# Altium footprint library Reader32chv2.PcbLib: 12 footprints
Each footprint in its own frame and in the unit in brackets; x right, y up, seen from the top. Pads: shape width x height; smd on the part's side, far side on the other; paste and mask are expansions set on the pad; w line width, h text height; cw(c..) or ccw(c..) is an arc to the next point about the centre after c.
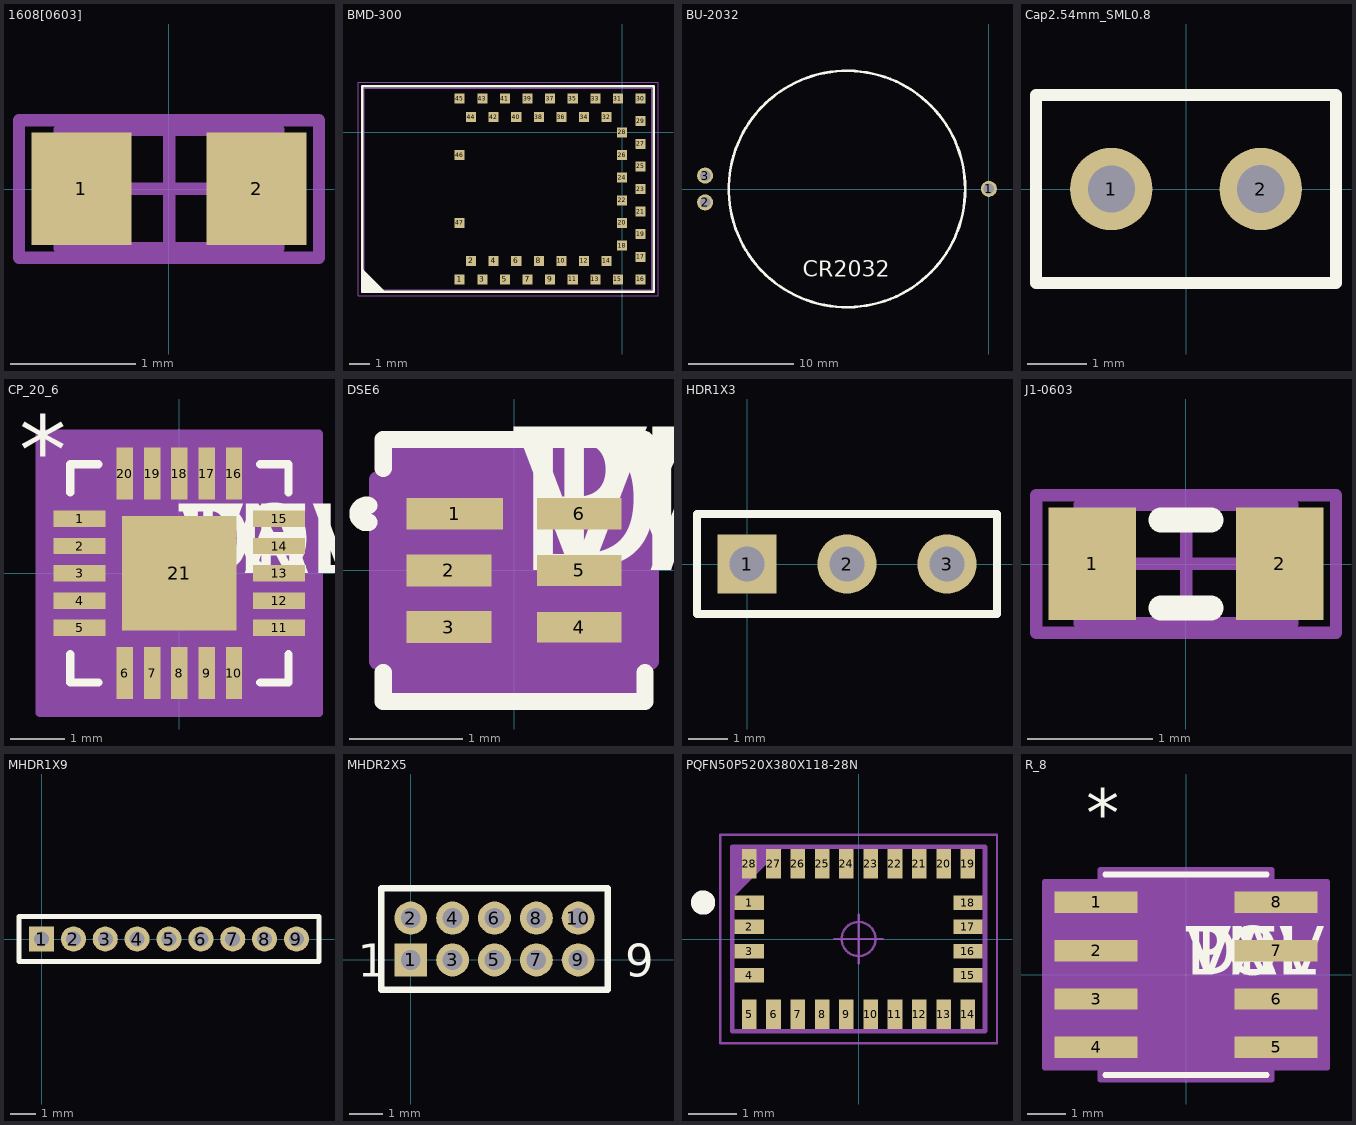
[diagram p0: the footprints below, top view; thin cyan lines are the x and y axes]

## 1608[0603] [mm] "Chip Capacitor, Body 1.6x0.8mm, IPC High Density"
height 1.3
pads (2):
  rect 0.8x0.9 smd: 1(-0.7,0) 2(0.7,0)
Mechanical 13:
  lines w0.1: -0.875,-0.475 -0.875,0.475 0.875,0.475 0.875,-0.475 -0.875,-0.475
Mechanical 15:
  lines w0.1: -0.475,0 0.475,0 ; 0,-0.475 0,0.475 ; -1.2,-0.55 -1.2,0.55 1.2,0.55 1.2,-0.55 -1.2,-0.55
3D body: height 1.3, standoff 0, extent -0.875,-0.475 0.875,0.475

## BMD-300 [mm] "BMD-300, LGA, 47pin ,1.1mm Pitch, 14mm x 9.8mm"
height 1.9
pads (47):
  rect 0.49x0.49 smd: 1(-7.9,-7.15) 2(-7.35,-6.25) 3(-6.8,-7.15) 4(-6.25,-6.25) 5(-5.7,-7.15) 6(-5.15,-6.25) 7(-4.6,-7.15) 8(-4.05,-6.25) 9(-3.5,-7.15) 10(-2.95,-6.25) 11(-2.4,-7.15) 12(-1.85,-6.25) 13(-1.3,-7.15) 14(-0.75,-6.25) 15(-0.2,-7.15) 16(0.9,-7.15) 17(0.9,-6.05) 18(0,-5.5) 19(0.9,-4.95) 20(0,-4.4) 21(0.9,-3.85) 22(0,-3.3) 23(0.9,-2.75) 24(0,-2.2) 25(0.9,-1.65) 26(0,-1.1) 27(0.9,-0.55) 28(0,0) 29(0.9,0.55) 30(0.9,1.65) 31(-0.2,1.65) 32(-0.75,0.75) 33(-1.3,1.65) 34(-1.85,0.75) 35(-2.4,1.65) 36(-2.95,0.75) 37(-3.5,1.65) 38(-4.05,0.75) 39(-4.6,1.65) 40(-5.15,0.75) 41(-5.7,1.65) 42(-6.25,0.75) 43(-6.8,1.65) 44(-7.35,0.75) 45(-7.9,1.65) 46(-7.9,-1.1) 47(-7.9,-4.4)
Top Overlay:
  region: -11.625,-7.725 -12.625,-6.725 -12.625,-7.725
  lines w0.127: -12.623,-6.717 -11.623,-7.717 ; -12.65,-7.75 1.55,-7.75 1.55,2.25 -12.65,2.25 -12.65,-7.75
Mechanical 11:
  text ".Designator" at -7.8,-2.75 h1.5
Mechanical 13:
  lines w0.05: -12.55,-7.65 1.45,-7.65 1.45,2.15 -12.55,2.15 -12.55,-7.65
Mechanical 15:
  lines w0.05: -12.85,-7.95 1.75,-7.95 1.75,2.45 -12.85,2.45 -12.85,-7.95
Multi-Layer:
  pour cut-out: -8.15,-7.65 -8.15,2.15 -12.55,2.15 -12.55,-7.65
3D body "BMD-300_assembly.STEP": height 1.89, standoff 0.05, extent -12.55,-7.65 1.45,2.15

## BU-2032 [mm]
pads (3):
  round 1.524 hole 1: 1(0,0.02) 2(-26.9,-1.27) 3(-26.9,1.27)
Top Overlay:
  circle w0.254: c-13.45,0 r11.2
  text "CR2032" at -17.64,-8.32 h1.52

## Cap2.54mm_SML0.8 [mm] "Capacitor, Ceramic, Thru-Hole, Dipped Radial; Body 5.1 x 3.2 mm (WxT) Pin Spacing 2.54 mm (typ)"
height 6
pads (2):
  round 1.4 hole 0.8: 1(-1.27,0)
  round 1.4 hole 0.813: 2(1.27,0)
Top Overlay:
  lines w0.2: -2.55,-1.6 2.55,-1.6 2.55,1.6 -2.55,1.6 -2.55,-1.6

## CP_20_6 [mm]
pads (21):
  rect 0.955x0.3 smd: 1(-1.827,1) 2(-1.827,0.5) 3(-1.827,0) 4(-1.827,-0.5) 5(-1.827,-1) 11(1.827,-1) 12(1.827,-0.5) 13(1.827,0) 14(1.827,0.5) 15(1.827,1)
  rect 0.3x0.955 smd: 6(-1,-1.827) 7(-0.5,-1.827) 8(0,-1.827) 9(0.5,-1.827) 10(1,-1.827) 16(1,1.827) 17(0.5,1.827) 18(0,1.827) 19(-0.5,1.827) 20(-1,1.827)
  rect 2.1x2.1 smd paste-1.037: 21(0,0)
Top Overlay:
  lines w0.152: -2,-1.483 -2,-2 -1.483,-2 ; -2,1.483 -2,2 -1.483,2 ; 1.483,-2 2,-2 2,-1.483 ; 1.483,2 2,2 2,1.483
  text "*" at -2.94,1.631 h1.27
  text "PN" at 0,0 h1.27
  text "DEV" at 0,0 h1.27
  text "VAL" at 0,0 h1.27
  text "TOL" at 0,0 h1.27
Top Paste:
  region: 1.05,1.05 -1.05,1.05 -1.05,-1.05 1.05,-1.05
Mechanical 13:
  lines w0.025: -2,0.73 -0.73,2 ; -2,-2 2,-2 2,2 -2,2 -2,-2 ; -2,-1.15 -2,-0.85 -2,-1.15 ; -2,-0.65 -2,-0.35 -2,-0.65 ; -2,-0.15 -2,0.15 -2,-0.15 ; -2,0.35 -2,0.65 -2,0.35 ; -2,0.85 -2,1.15 -2,0.85 ; -1.15,-2 -0.85,-2 -1.15,-2 ; -1.15,2 -0.85,2 -1.15,2 ; -0.65,-2 -0.35,-2 -0.65,-2 ; -0.65,2 -0.35,2 -0.65,2 ; -0.15,-2 0.15,-2 -0.15,-2 ; -0.15,2 0.15,2 -0.15,2 ; 0.35,-2 0.65,-2 0.35,-2 ; 0.35,2 0.65,2 0.35,2 ; 0.85,-2 1.15,-2 0.85,-2 ; 0.85,2 1.15,2 0.85,2 ; 2,-1.15 2,-0.85 2,-1.15 ; 2,-0.65 2,-0.35 2,-0.65 ; 2,-0.15 2,0.15 2,-0.15 ; 2,0.35 2,0.65 2,0.35 ; 2,0.85 2,1.15 2,0.85
  text "*" at -2.94,1.631 h1.27
  text "RefDes2" at 0,0 h1.27
Mechanical 15:
  region: 2.559,-2.559 -2.559,-2.559 -2.559,2.559 2.559,2.559
  lines w0.152: -2.559,-2.559 -2.559,2.559 2.559,2.559 2.559,-2.559 -2.559,-2.559
3D body "User Library-QFN20_4x4x0_8.STEP": height 0.78, standoff -0.02, extent -2.01,-2.01 2.01,2.01

## DSE6 [mm]
pads (6):
  rect 0.85x0.28 smd paste-0.05 mask+0.05: 1(-0.525,0.5)
  rect 0.75x0.28 smd paste-0.05 mask+0.05: 2(-0.575,0) 3(-0.575,-0.5) 6(0.575,0.5)
  rect 0.75x0.27 smd paste-0.1 mask+0.05: 4(0.575,-0.5)
  rect 0.75x0.27 smd paste-0.05 mask+0.05: 5(0.575,0)
Top Overlay:
  lines w0.152: -1.283,0.426 cw(c-1.302,0.5) -1.283,0.574 ; -1.156,-0.901 -1.156,-1.156 1.156,-1.156 1.156,-0.901 ; -1.156,0.901 -1.156,1.156 1.156,1.156 1.156,0.901
  text "PN" at 0,0 h1.27
  text "DEV" at 0,0 h1.27
  text "VAL" at 0,0 h1.27
  text "TOL" at 0,0 h1.27
Top Paste:
  region: -0.225,0.615 -0.925,0.615 -0.925,0.385 -0.225,0.385
  region: -0.225,0.115 -0.925,0.115 -0.925,-0.115 -0.225,-0.115
  region: -0.225,-0.385 -0.925,-0.385 -0.925,-0.615 -0.225,-0.615
  region: 0.925,-0.385 0.225,-0.385 0.225,-0.615 0.925,-0.615
  region: 0.925,0.115 0.225,0.115 0.225,-0.115 0.925,-0.115
  region: 0.925,0.615 0.225,0.615 0.225,0.385 0.925,0.385
Mechanical 13:
  circle w0: c-0.2,0.5 r0.076
  lines w0: -0.305,0.775 ccw(c0,0.775) 0.305,0.775
  lines w0.025: -0.775,-0.775 0.775,-0.775 0.775,0.775 -0.775,0.775 -0.775,-0.775
  text "RefDes2" at 0,0 h1.27
Mechanical 15:
  region: -1.029,-0.801 -1.204,-0.801 -1.204,0.801 -1.029,0.801 -1.029,1.029 1.029,1.029 1.029,0.801 1.204,0.801 1.204,-0.801 1.029,-0.801 1.029,-1.029 -1.029,-1.029
  lines w0.152: -1.204,-0.801 -1.204,0.801 -1.029,0.801 -1.029,1.029 1.029,1.029 1.029,0.801 1.204,0.801 1.204,-0.801 1.029,-0.801 1.029,-1.029 -1.029,-1.029 -1.029,-0.801 -1.204,-0.801
3D body "User Library-DSE(S-PDSO-N6).step": height 0.75, standoff 0, extent -0.77,-0.75 0.77,0.75

## HDR1X3 [mm] "Connector; Header; 3 Position"
pads (3):
  rect 1.5x1.5 hole 0.9: 1(0,0)
  round 1.5 hole 0.9: 2(2.54,0) 3(5.08,0)
Top Overlay:
  lines w0.2: -1.27,-1.27 -1.27,1.27 6.35,1.27 6.35,-1.27 -1.27,-1.27

## J1-0603 [mm] "Chip Resistor, Body 1.6x0.8mm, IPC High Density"
height 0.9
pads (2):
  rect 0.7x0.9 smd: 1(-0.75,0) 2(0.75,0)
Top Overlay:
  lines w0.2: -0.2,-0.35 0.2,-0.35 ; -0.2,0.35 0.2,0.35
Mechanical 13:
  lines w0.1: -0.85,-0.475 0.85,-0.475 0.85,0.475 -0.85,0.475 -0.85,-0.475
Mechanical 15:
  lines w0.1: -0.475,0 0.475,0 ; 0,-0.475 0,0.475 ; -1.2,-0.55 1.2,-0.55 1.2,0.55 -1.2,0.55 -1.2,-0.55
3D body: height 0.9, standoff 0, extent -0.85,-0.475 0.85,0.475

## MHDR1X9 [mm] "Connector; Header; 9 Position"
pads (9):
  rect 1x1 hole 0.6: 1(0,0)
  round 1 hole 0.6: 2(1.27,0) 3(2.54,0) 4(3.81,0) 5(5.08,0) 6(6.35,0) 7(7.62,0) 8(8.89,0) 9(10.16,0)
Top Overlay:
  lines w0.2: -0.9,-0.9 11.06,-0.9 11.06,0.9 -0.9,0.9 -0.9,-0.9

## MHDR2X5 [mm] "Connector; Header; 5x2 Position"
pads (10):
  rect 1x1 hole 0.6: 1(0,0)
  round 1 hole 0.6: 2(0,1.27) 3(1.27,0) 4(1.27,1.27) 5(2.54,0) 6(2.54,1.27) 7(3.81,0) 8(3.81,1.27) 9(5.08,0) 10(5.08,1.27)
Top Overlay:
  lines w0.2: -0.9,-0.9 5.98,-0.9 5.98,2.17 -0.9,2.17 -0.9,-0.9
  text "1" at -1.6,-0.508 h1
  text "9" at 6.5,-0.508 h1

## PQFN50P520X380X118-28N [mm]
height 1.18
pads (28):
  rect 0.6x0.3 smd: 1(-2.25,0.75) 2(-2.25,0.25) 3(-2.25,-0.25) 4(-2.25,-0.75) 15(2.25,-0.75) 16(2.25,-0.25) 17(2.25,0.25) 18(2.25,0.75)
  rect 0.3x0.6 smd: 5(-2.25,-1.55) 6(-1.75,-1.55) 7(-1.25,-1.55) 8(-0.75,-1.55) 9(-0.25,-1.55) 10(0.25,-1.55) 11(0.75,-1.55) 12(1.25,-1.55) 13(1.75,-1.55) 14(2.25,-1.55) 19(2.25,1.55) 20(1.75,1.55) 21(1.25,1.55) 22(0.75,1.55) 23(0.25,1.55) 24(-0.25,1.55) 25(-0.75,1.55) 26(-1.25,1.55) 27(-1.75,1.55) 28(-2.25,1.55)
Top Overlay:
  circle w0.25: c-3.2,0.75 r0.125
Mechanical 15:
  lines w0.1: -2.6,0.9 -1.6,1.9 ; -2.6,1 -1.7,1.9 ; -2.6,1.1 -1.8,1.9 ; -2.6,1.2 -1.9,1.9 ; -2.6,1.3 -2,1.9 ; -2.6,1.4 -2.1,1.9 ; -2.6,1.5 -2.2,1.9 ; -2.6,1.6 -2.3,1.9 ; -2.6,1.7 -2.4,1.9 ; -2.6,1.8 -2.5,1.9 ; -2.6,-1.9 -2.6,1.9 2.6,1.9 2.6,-1.9 -2.6,-1.9
Mechanical 16:
  circle w0.05: c0,0 r0.35
  lines w0.001: -2.6,-1.9 -2.6,1.9 2.6,1.9 2.6,-1.9 -2.6,-1.9
  lines w0.05: -0.5,0 0.5,0 ; 0,-0.5 0,0.5 ; -2.85,-2.15 -2.85,2.15 2.85,2.15 2.85,-2.15 -2.85,-2.15

## R_8 [mil]
pads (8):
  rect 86x22 smd paste+0 mask+0: 1(-93,75) 2(-93,25) 3(-93,-25) 4(-93,-75) 5(93,-75) 6(93,-25) 7(93,25) 8(93,75)
Top Overlay:
  lines w6: -83.5,-103.5 83.5,-103.5 ; -83.5,103.5 83.5,103.5
  text "TOL" at 0,0 h50
  text "VAL" at 0,0 h50
  text "DEV" at 0,0 h50
  text "PN" at 0,0 h50
  text "*" at -103,142 h50
Mechanical 13:
  lines w0: -12,98.5 ccw(c0,98.5) 12,98.5
  lines w1: -122,-85 -78.5,-85 -78.5,-65 -122,-65 -122,-85 ; -122,-35 -78.5,-35 -78.5,-15 -122,-15 -122,-35 ; -122,15 -78.5,15 -78.5,35 -122,35 -122,15 ; -122,65 -78.5,65 -78.5,85 -122,85 -122,65 ; -78.5,-98.5 -78.5,98.5 78.5,98.5 78.5,-98.5 -78.5,-98.5 ; 78.5,-85 122,-85 122,-65 78.5,-65 78.5,-85 ; 78.5,-35 122,-35 122,-15 78.5,-15 78.5,-35 ; 78.5,15 122,15 122,35 78.5,35 78.5,15 ; 78.5,65 122,65 122,85 78.5,85 78.5,65
  text "RefDes2" at 0,0 h50
  text "*" at -63.5,95.5 h50
Mechanical 15:
  region: -88.5,-96 -146,-96 -146,96 -88.5,96 -88.5,108.5 88.5,108.5 88.5,96 146,96 146,-96 88.5,-96 88.5,-108.5 -88.5,-108.5
  lines w6: -146,-96 -88.5,-96 -88.5,-108.5 88.5,-108.5 88.5,-96 146,-96 146,96 88.5,96 88.5,108.5 -88.5,108.5 -88.5,96 -146,96 -146,-96
3D body "User Library-SOIC_N-R8.step": height 68.9, standoff 0, extent -122.04,-98.43 122.05,98.42